# Altium schematic symbol library IC_Cirrus_Logic_WM8960CGEFL-V_eec.SchLib: 1 symbol
Pins are listed as number, name and electrical type; pins without a type are passive.

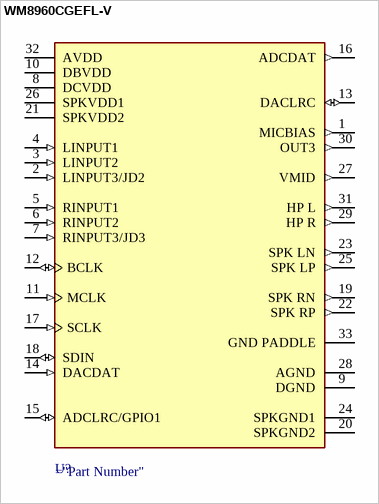
[diagram p0: symbol WM8960CGEFL-V]

## WM8960CGEFL-V
designator U?  (value not drawn)
pins: 1 MICBIAS (out), 2 LINPUT3/JD2 (in), 3 LINPUT2 (in), 4 LINPUT1 (in), 5 RINPUT1 (in), 6 RINPUT2 (in), 7 RINPUT3/JD3 (in), 8 DCVDD (power), 9 DGND (power), 10 DBVDD (power), 11 MCLK (in), 12 BCLK (io), 13 DACLRC (io), 14 DACDAT (in), 15 ADCLRC/GPIO1 (io), 16 ADCDAT (out), 17 SCLK (in), 18 SDIN (io), 19 SPK RN (out), 20 SPKGND2 (power), 21 SPKVDD2 (power), 22 SPK RP (out), 23 SPK LN (out), 24 SPKGND1 (power), 25 SPK LP (out), 26 SPKVDD1 (power), 27 VMID (out), 28 AGND (power), 29 HP R (out), 30 OUT3 (out), 31 HP L (out), 32 AVDD (power), 33 GND PADDLE (power)